# EAGLE library part LT1308A (library JCM)
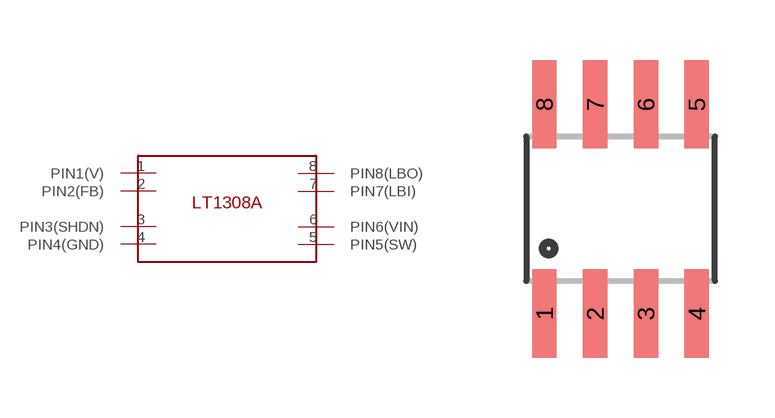
[diagram p3: symbol with the pads of SO08; footprint SO08]

Designator prefix -

## LT1308A  [SO08]
1  PIN1(V)
2  PIN2(FB)
3  PIN3(SHDN)
4  PIN4(GND)
5  PIN5(SW)
6  PIN6(VIN)
7  PIN7(LBI)
8  PIN8(LBO)

## Footprint SO08 (pad centres in mm)
Small Outline Package Fits JEDEC packages (narrow SOIC-8)
smd 0.61 x 2.21: 1 -1.905,-2.616; 2 -0.635,-2.616; 3 0.635,-2.616; 4 1.905,-2.616; 5 1.905,2.616; 6 0.635,2.616; 7 -0.635,2.616; 8 -1.905,2.616